# EAGLE library part THRU-HOLE1A (library dec-con)
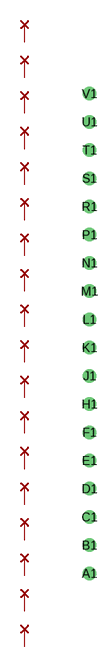
[diagram p39: symbol with the pads of THRU-HOLE1A; footprint THRU-HOLE1A]

Designator prefix -; gates V=THRU-HOLE-PAD U=THRU-HOLE-PAD T=THRU-HOLE-PAD S=THRU-HOLE-PAD R=THRU-HOLE-PAD P=THRU-HOLE-PAD N=THRU-HOLE-PAD M=THRU-HOLE-PAD L=THRU-HOLE-PAD K=THRU-HOLE-PAD J=THRU-HOLE-PAD H=THRU-HOLE-PAD F=THRU-HOLE-PAD E=THRU-HOLE-PAD D=THRU-HOLE-PAD C=THRU-HOLE-PAD B=THRU-HOLE-PAD A=THRU-HOLE-PAD

## THRU-HOLE1A  [THRU-HOLE1A]
A1  A:P$1  pas
B1  B:P$1  pas
C1  C:P$1  pas
D1  D:P$1  pas
E1  E:P$1  pas
F1  F:P$1  pas
H1  H:P$1  pas
J1  J:P$1  pas
K1  K:P$1  pas
L1  L:P$1  pas
M1  M:P$1  pas
N1  N:P$1  pas
P1  P:P$1  pas
R1  R:P$1  pas
S1  S:P$1  pas
T1  T:P$1  pas
U1  U:P$1  pas
V1  V:P$1  pas

## Footprint THRU-HOLE1A (pad centres in mm)
Row of 18 on .125" centers
drill 1.016 pad 1.27: A1 0,-28.575; B1 0,-25.4; C1 0,-22.225; D1 0,-19.05; E1 0,-15.875; F1 0,-12.7; H1 0,-9.525; J1 0,-6.35; K1 0,-3.175; L1 0,0; M1 0,3.175; N1 0,6.35; P1 0,9.525; R1 0,12.7; S1 0,15.875; T1 0,19.05; U1 0,22.225; V1 0,25.4